# Altium schematic symbol library Persephone.SchLib: 4 symbols
Pins are listed as number, name and electrical type; pins without a type are passive.

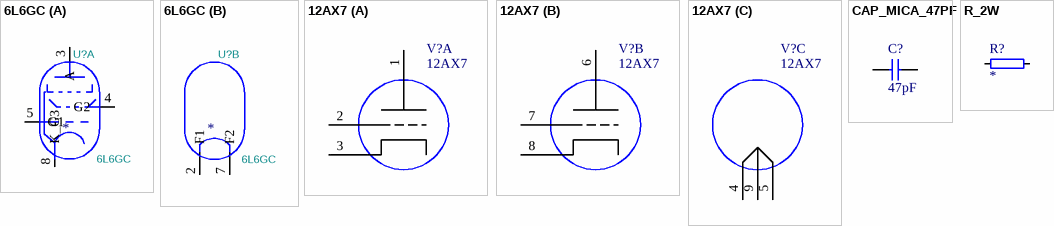
[diagram p0: symbols 6L6GC to R_2W]

## 6L6GC
designator U?  value 6L6GC
Footprint: Valve:Valve_Noval_P
footprint VALVE-OCTAL
part A pins: 3 A, 4 G2, 5 G1, 8 K_G3
part B pins: 2 F1, 7 F2

## 12AX7
designator V?
TUNGSOL 12AX7 NEW PRD PREAMP TB; MF: RCA; SnapEDA_Link: https://www.snapeda.com/parts/12AX7/RCA/view-part/?ref=snap; Package: None; MP: 12AX7; Check_prices: https://www.snapeda.com/parts/12AX7/RCA/view-part/?ref=eda; Value: *
footprint NOVAL_PCB
part A pins: 1, 2, 3
part B pins: 6, 7, 8
part C pins: 4, 5, 9

## CAP_MICA_47PF
designator C?, comment 47pF
Capacitor, Silver Mica; Part Number: CMICA_47PF; Value: 47pF
footprint CAP_MICA
pins: 1, 2

## R_2W
designator R?
Resistor, 2W; Part Number: R2W; ComponentLink1URL: N.A.; ComponentLink1Description: Datasheet; ComponentLink2URL: N.A.; ComponentLink2Description: Supplier link; Author: colombari; Value: *
footprint RES_2W
pins: 1, 2